# Altium schematic symbol library Транзисторы биполярные.SchLib: 14 symbols
Pins are listed as number, name and electrical type; pins without a type are passive.

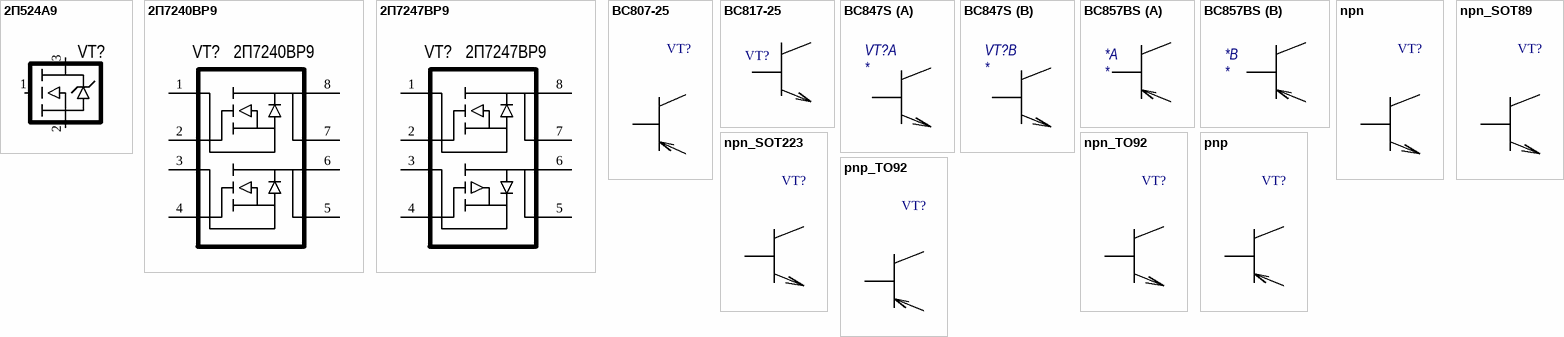
[diagram p0: symbols 2П524А9 to pnp_TO92]

## 2П524А9
designator VT?  (value not drawn)
footprint КТ-99-1
pins: 1, 2, 3

## 2П7240ВР9
designator VT?
footprint SOIC-8
pins: 1, 2, 3, 4, 5, 6, 7, 8

## 2П7247ВР9
designator VT?
footprint SOIC-8
pins: 1, 2, 3, 4, 5, 6, 7, 8

## BC807-25
designator VT?  (value not drawn)
footprint SOT23-3
pins: 1 B, 2 E, 3 C

## BC817-25
designator VT?  (value not drawn)
footprint SOT23-3
pins: 1 B, 2 E, 3 C

## BC847S
designator VT?
part A pins: 1 E1, 2 B1, 6 C1
part B pins: 3 C2, 4 E2, 5 B2

## BC857BS
designator *
part A pins: 1 E1, 2 B1, 6 C1
part B pins: 3 C2, 4 E2, 5 B2

## npn
designator VT?  (value not drawn)
footprint SOT23-3
pins: 1 B, 2 E, 3 C

## npn_SOT89
designator VT?  (value not drawn)
pins: 1 B, 2 C, 3 E

## npn_SOT223
designator VT?  (value not drawn)
pins: 1 B, 2 C, 3 E

## npn_TO92
designator VT?  (value not drawn)
pins: 1 E, 2 B, 3 C

## pnp
designator VT?  (value not drawn)
footprint SOT23-3
pins: 1 B, 2 E, 3 C

## pnp_TO92
designator VT?  (value not drawn)
pins: 1 E, 2 B, 3 C

## РЫБА
designator C?  (value not drawn)
Rem: *; Package: *; Value: *; Tolerance: *; Power/Voltage: *; TKE: *; ManufacturerPartNumber: *; Manufacturer: *; Quantity: *; Примечание: *